# Altium footprint library 贴片IC.PcbLib: 51 footprints (part 3 of 4)
Each footprint in its own frame and in the unit in brackets; x right, y up, seen from the top. Pads: shape width x height; smd on the part's side, far side on the other; paste and mask are expansions set on the pad; w line width, h text height; cw(c..) or ccw(c..) is an arc to the next point about the centre after c.
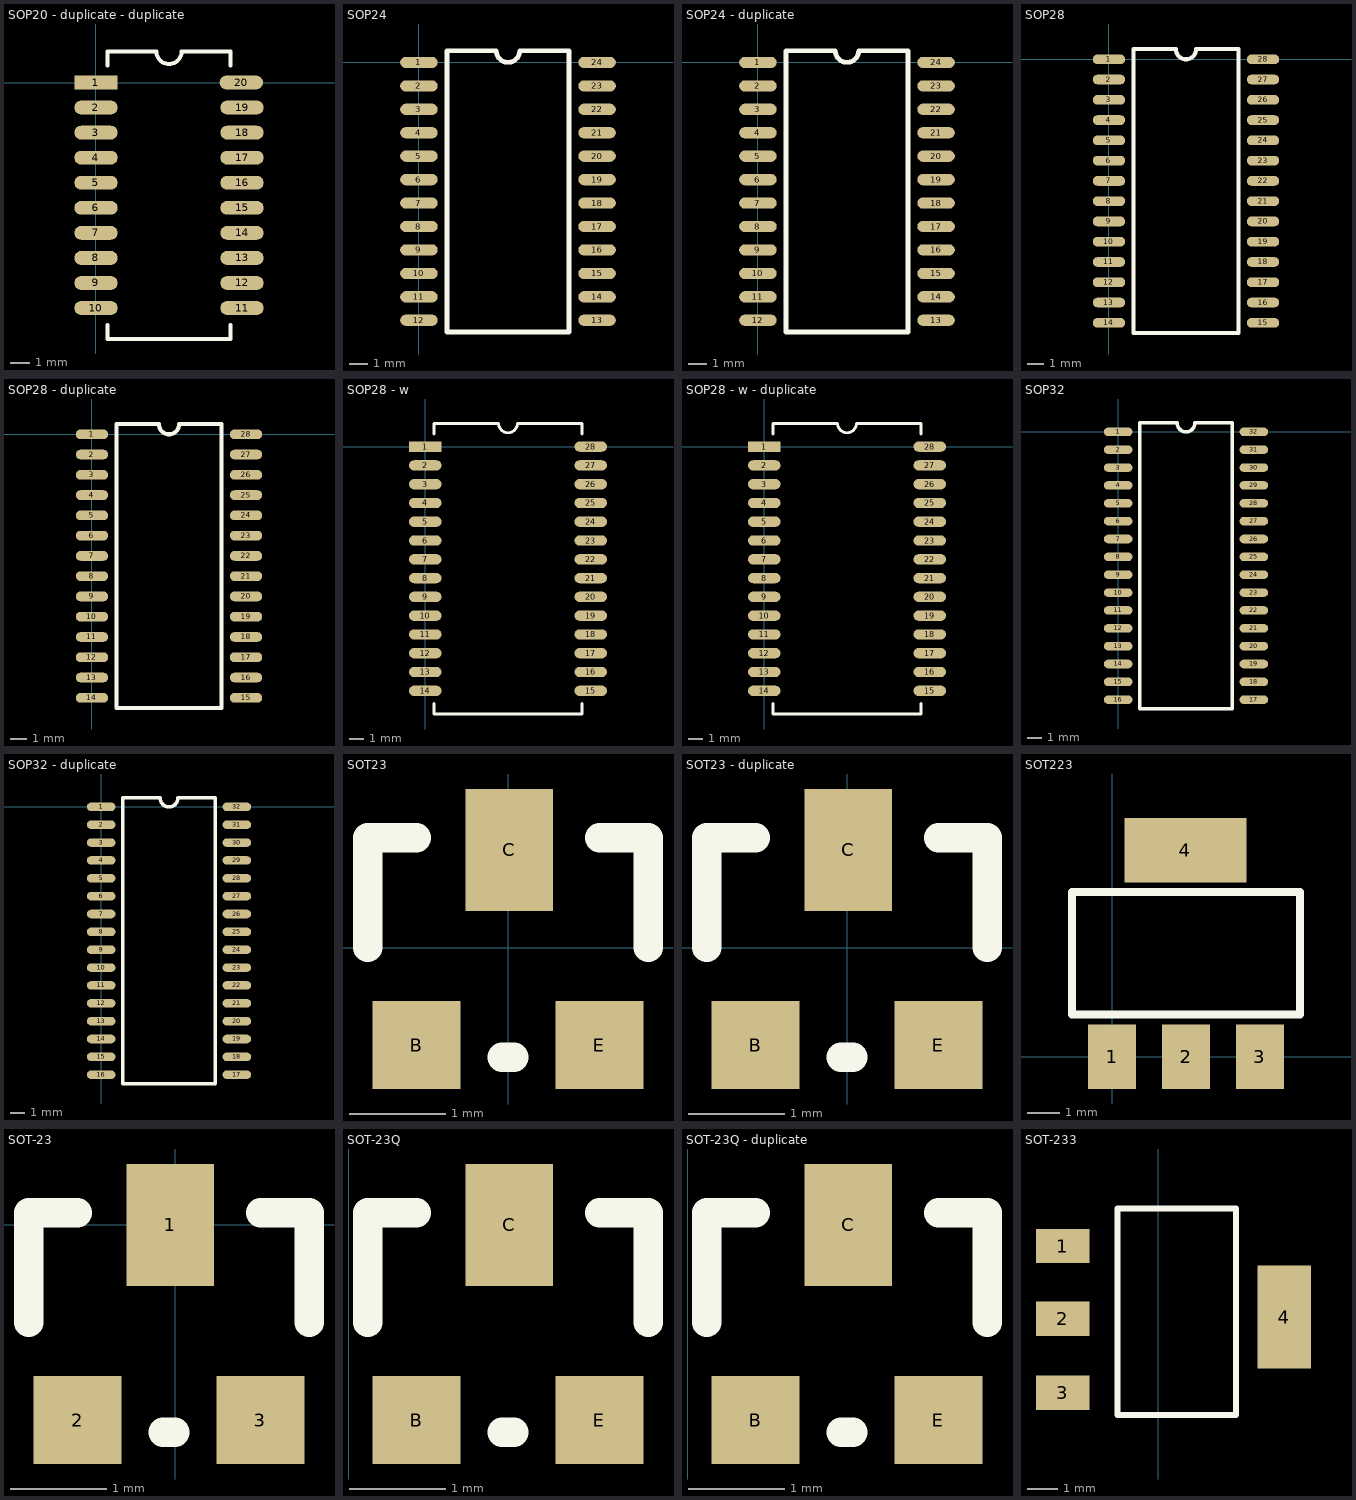
[diagram p2: the footprints below, top view; thin cyan lines are the x and y axes]

## SOP20 - duplicate - duplicate [mm]
pads (20):
  rect 2.2x0.7 smd: 1(0,0)
  oval 2.2x0.7 smd: 2(0,-1.27) 3(0,-2.54) 4(0,-3.81) 5(0,-5.08) 6(0,-6.35) 7(0,-7.62) 8(0,-8.89) 9(0,-10.16) 10(0,-11.43) 11(7.4,-11.43) 12(7.4,-10.16) 13(7.4,-8.89) 14(7.4,-7.62) 15(7.4,-6.35) 16(7.4,-5.08) 17(7.4,-3.81) 18(7.4,-2.54) 19(7.4,-1.27) 20(7.366,0)
Top Overlay:
  lines w0.2: 0.59,-12.28 0.59,-13 6.81,-13 6.81,-12.28 ; 0.59,0.85 0.59,1.57 3.065,1.57 ccw(c3.7,1.57) 4.335,1.57 6.81,1.57 6.81,0.85

## SOP24 [mil]
pads (24):
  oval 80x24 smd: 1(0,0) 2(0,-50) 3(0,-100) 4(0,-150) 5(0,-200) 6(0,-250) 7(0,-300) 8(0,-350) 9(0,-400) 10(0,-450) 11(0,-500) 12(0,-550) 13(380,-550) 14(380,-500) 15(380,-450) 16(380,-400) 17(380,-350) 18(380,-300) 19(380,-250) 20(380,-200) 21(380,-150) 22(380,-100) 23(380,-50) 24(380,0)
Top Overlay:
  lines w10: 60,-575 60,25 165,25 ccw(c190,25) 215,25 320,25 320,-575 60,-575

## SOP24 - duplicate [mil]
pads (24):
  oval 80x24 smd: 1(0,0) 2(0,-50) 3(0,-100) 4(0,-150) 5(0,-200) 6(0,-250) 7(0,-300) 8(0,-350) 9(0,-400) 10(0,-450) 11(0,-500) 12(0,-550) 13(380,-550) 14(380,-500) 15(380,-450) 16(380,-400) 17(380,-350) 18(380,-300) 19(380,-250) 20(380,-200) 21(380,-150) 22(380,-100) 23(380,-50) 24(380,0)
Top Overlay:
  lines w10: 60,-575 320,-575 320,25 215,25 cw(c190,25) 165,25 60,25 60,-575

## SOP28 [mil]
pads (28):
  oval 80x24 smd: 1(0,0) 2(0,-50) 3(0,-100) 4(0,-150) 5(0,-200) 6(0,-250) 7(0,-300) 8(0,-350) 9(0,-400) 10(0,-450) 11(0,-500) 12(0,-550) 13(0,-600) 14(0,-650) 15(380,-650) 16(380,-600) 17(380,-550) 18(380,-500) 19(380,-450) 20(380,-400) 21(380,-350) 22(380,-300) 23(380,-250) 24(380,-200) 25(380,-150) 26(380,-100) 27(380,-50) 28(380,0)
Top Overlay:
  lines w10: 60,-675 320,-675 320,25 215,25 cw(c190,25) 165,25 60,25 60,-675

## SOP28 - duplicate [mil]
pads (28):
  oval 80x24 smd: 1(0,0) 2(0,-50) 3(0,-100) 4(0,-150) 5(0,-200) 6(0,-250) 7(0,-300) 8(0,-350) 9(0,-400) 10(0,-450) 11(0,-500) 12(0,-550) 13(0,-600) 14(0,-650) 15(380,-650) 16(380,-600) 17(380,-550) 18(380,-500) 19(380,-450) 20(380,-400) 21(380,-350) 22(380,-300) 23(380,-250) 24(380,-200) 25(380,-150) 26(380,-100) 27(380,-50) 28(380,0)
Top Overlay:
  lines w10: 60,-675 60,25 165,25 ccw(c190,25) 215,25 320,25 320,-675 60,-675

## SOP28 - w [mm]
pads (28):
  rect 2.2x0.7 smd: 1(0,0)
  oval 2.2x0.7 smd: 2(0,-1.27) 3(0,-2.54) 4(0,-3.81) 5(0,-5.08) 6(0,-6.35) 7(0,-7.62) 8(0,-8.89) 9(0,-10.16) 10(0,-11.43) 11(0,-12.7) 12(0,-13.97) 13(0,-15.24) 14(0,-16.51) 15(11.2,-16.51) 16(11.2,-15.24) 17(11.2,-13.97) 18(11.2,-12.7) 19(11.2,-11.43) 20(11.2,-10.16) 21(11.2,-8.89) 22(11.2,-7.62) 23(11.2,-6.35) 24(11.2,-5.08) 25(11.2,-3.81) 26(11.2,-2.54) 27(11.2,-1.27) 28(11.2,0)
Top Overlay:
  lines w0.2: 0.585,-17.36 0.585,-18.08 10.615,-18.08 10.615,-17.36 ; 0.585,0.85 0.585,1.57 4.965,1.57 ccw(c5.6,1.57) 6.235,1.57 10.615,1.57 10.615,0.85

## SOP28 - w - duplicate [mm]
pads (28):
  rect 2.2x0.7 smd: 1(0,0)
  oval 2.2x0.7 smd: 2(0,-1.27) 3(0,-2.54) 4(0,-3.81) 5(0,-5.08) 6(0,-6.35) 7(0,-7.62) 8(0,-8.89) 9(0,-10.16) 10(0,-11.43) 11(0,-12.7) 12(0,-13.97) 13(0,-15.24) 14(0,-16.51) 15(11.2,-16.51) 16(11.2,-15.24) 17(11.2,-13.97) 18(11.2,-12.7) 19(11.2,-11.43) 20(11.2,-10.16) 21(11.2,-8.89) 22(11.2,-7.62) 23(11.2,-6.35) 24(11.2,-5.08) 25(11.2,-3.81) 26(11.2,-2.54) 27(11.2,-1.27) 28(11.2,0)
Top Overlay:
  lines w0.2: 0.585,-17.36 0.585,-18.08 10.615,-18.08 10.615,-17.36 ; 0.585,0.85 0.585,1.57 4.965,1.57 ccw(c5.6,1.57) 6.235,1.57 10.615,1.57 10.615,0.85

## SOP32 [mil]
pads (32):
  oval 80x24 smd: 1(0,0) 2(0,-50) 3(0,-100) 4(0,-150) 5(0,-200) 6(0,-250) 7(0,-300) 8(0,-350) 9(0,-400) 10(0,-450) 11(0,-500) 12(0,-550) 13(0,-600) 14(0,-650) 15(0,-700) 16(0,-750) 17(380,-750) 18(380,-700) 19(380,-650) 20(380,-600) 21(380,-550) 22(380,-500) 23(380,-450) 24(380,-400) 25(380,-350) 26(380,-300) 27(380,-250) 28(380,-200) 29(380,-150) 30(380,-100) 31(380,-50) 32(380,0)
Top Overlay:
  lines w10: 60,-775 320,-775 320,25 215,25 cw(c190,25) 165,25 60,25 60,-775

## SOP32 - duplicate [mil]
pads (32):
  oval 80x24 smd: 1(0,0) 2(0,-50) 3(0,-100) 4(0,-150) 5(0,-200) 6(0,-250) 7(0,-300) 8(0,-350) 9(0,-400) 10(0,-450) 11(0,-500) 12(0,-550) 13(0,-600) 14(0,-650) 15(0,-700) 16(0,-750) 17(380,-750) 18(380,-700) 19(380,-650) 20(380,-600) 21(380,-550) 22(380,-500) 23(380,-450) 24(380,-400) 25(380,-350) 26(380,-300) 27(380,-250) 28(380,-200) 29(380,-150) 30(380,-100) 31(380,-50) 32(380,0)
Top Overlay:
  lines w10: 60,-775 320,-775 320,25 215,25 cw(c190,25) 165,25 60,25 60,-775

## SOT23 [mil] "EBC 管脚"
pads (3):
  rect 36x36 smd: B(-37.5,-40) E(37.5,-40)
  rect 36x50 smd: C(0.5,40)
Top Overlay:
  lines w12: -57.5,0 -57.5,45 -37.5,45 ; -2.5,-45 2.5,-45 ; 37.5,45 57.5,45 57.5,0

## SOT23 - duplicate [mil] "EBC 管脚"
pads (3):
  rect 36x36 smd: B(-37.5,-40) E(37.5,-40)
  rect 36x50 smd: C(0.5,40)
Top Overlay:
  lines w12: -57.5,0 -57.5,45 -37.5,45 ; -2.5,-45 2.5,-45 ; 37.5,45 57.5,45 57.5,0

## SOT223 [mil]
pads (4):
  rect 59x79 smd: 1(0,0) 2(90.55,0) 3(181.1,0)
  rect 150x79 smd: 4(89.88,253.54)
Top Overlay:
  lines w10: -49.45,52 -49.45,202 230.55,202 230.55,52 -49.45,52

## SOT-23 [mil] "123 管脚"
pads (3):
  rect 36x50 smd: 1(-2,0)
  rect 36x36 smd: 2(-40,-80) 3(35,-80)
Top Overlay:
  lines w12: -60,-40 -60,5 -40,5 ; -5,-85 0,-85 ; 35,5 55,5 55,-40

## SOT-23Q [mil]
pads (3):
  rect 36x36 smd: B(27.75,-120.28) E(102.75,-120.28)
  rect 36x50 smd: C(65.75,-40.28)
Top Overlay:
  lines w12: 7.75,-80.28 7.75,-35.28 27.75,-35.28 ; 62.76,-125.28 67.75,-125.28 ; 102.75,-35.28 122.75,-35.28 122.75,-80.28

## SOT-23Q - duplicate [mil]
pads (3):
  rect 36x36 smd: B(27.75,-120.28) E(102.75,-120.28)
  rect 36x50 smd: C(65.75,-40.28)
Top Overlay:
  lines w12: 7.75,-80.28 7.75,-35.28 27.75,-35.28 ; 62.76,-125.28 67.75,-125.28 ; 102.75,-35.28 122.75,-35.28 122.75,-80.28

## SOT-233 [mil]
pads (4):
  rect 70x45 smd: 1(-125,715) 2(-125,619.96) 3(-125,523)
  rect 70x135 smd: 4(165.35,622.05)
Top Overlay:
  lines w8: -53.35,493.98 101.65,493.98 101.65,763.98 -53.35,763.98 -53.35,493.98